# Altium schematic symbol library MI_Personal.SchLib: 995 symbols (part 12 of 12)
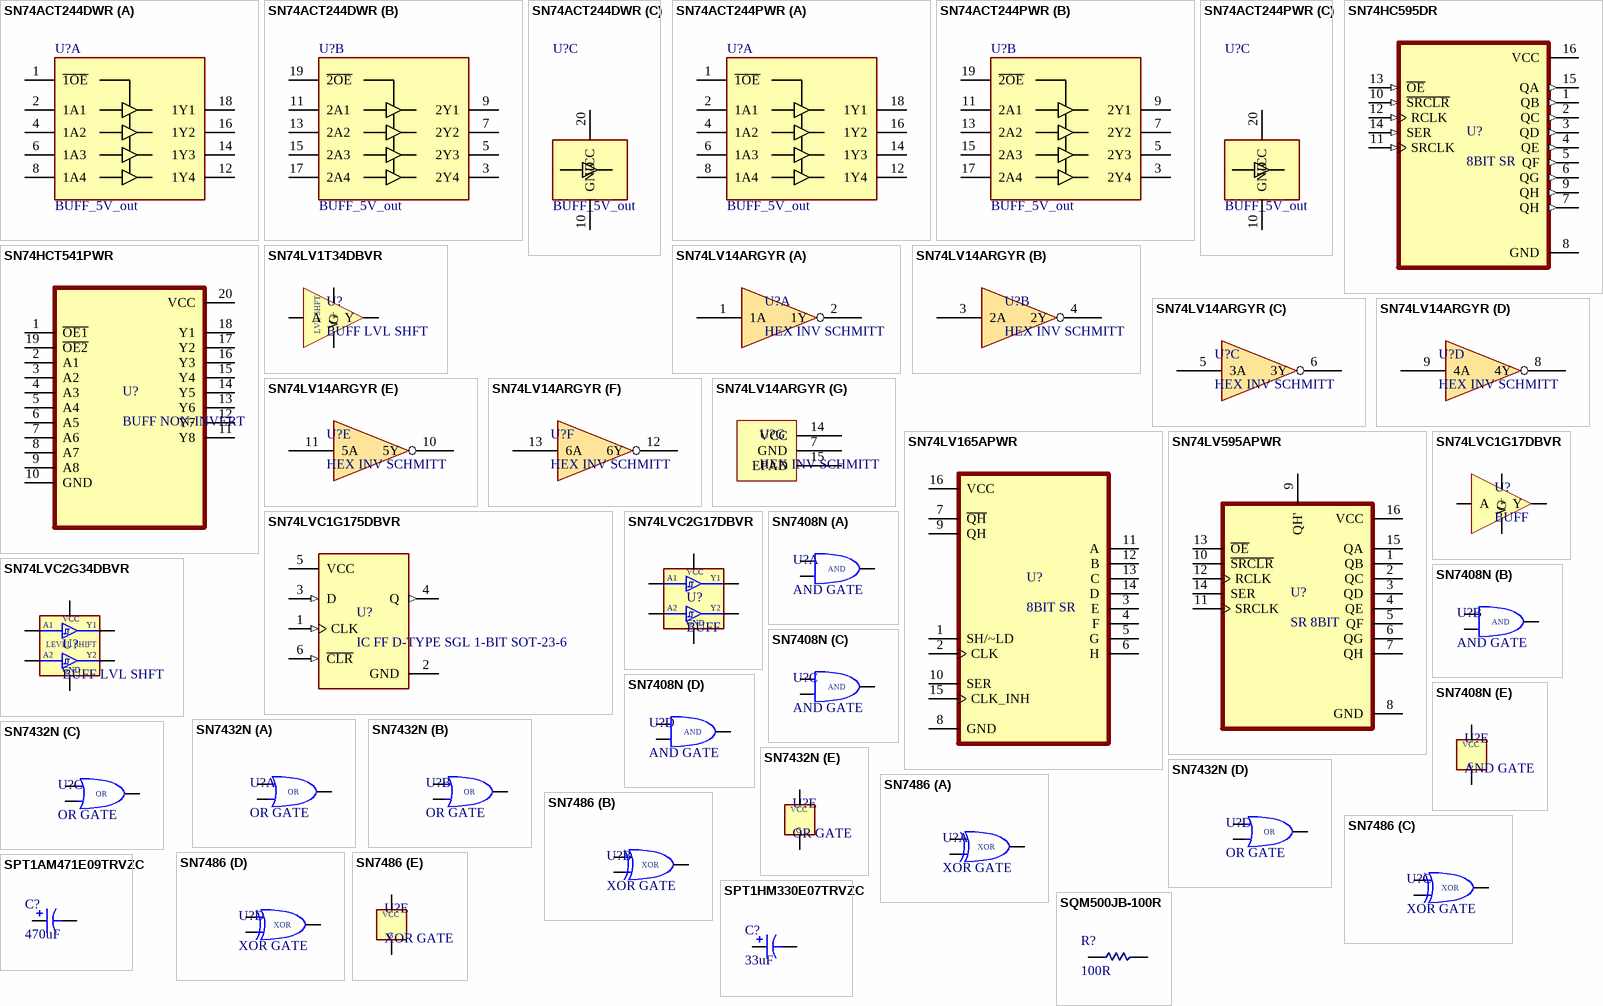
[diagram p38: symbols SN74ACT244DWR to SQM500JB-100R]

## SQM500JB-100R
designator R?, comment 100R
RES TH 100 OHM 5% 5W RADIAL CEMENT P=5; Supplier 1: Digikey; Supplier Part Number 1: 13-SQM500JB-100R-ND; Supplier 2: LCSC; Supplier Part Number 2: C3560599
footprint RES_SQM5 P=5mm
pins: 1 A, 2 B

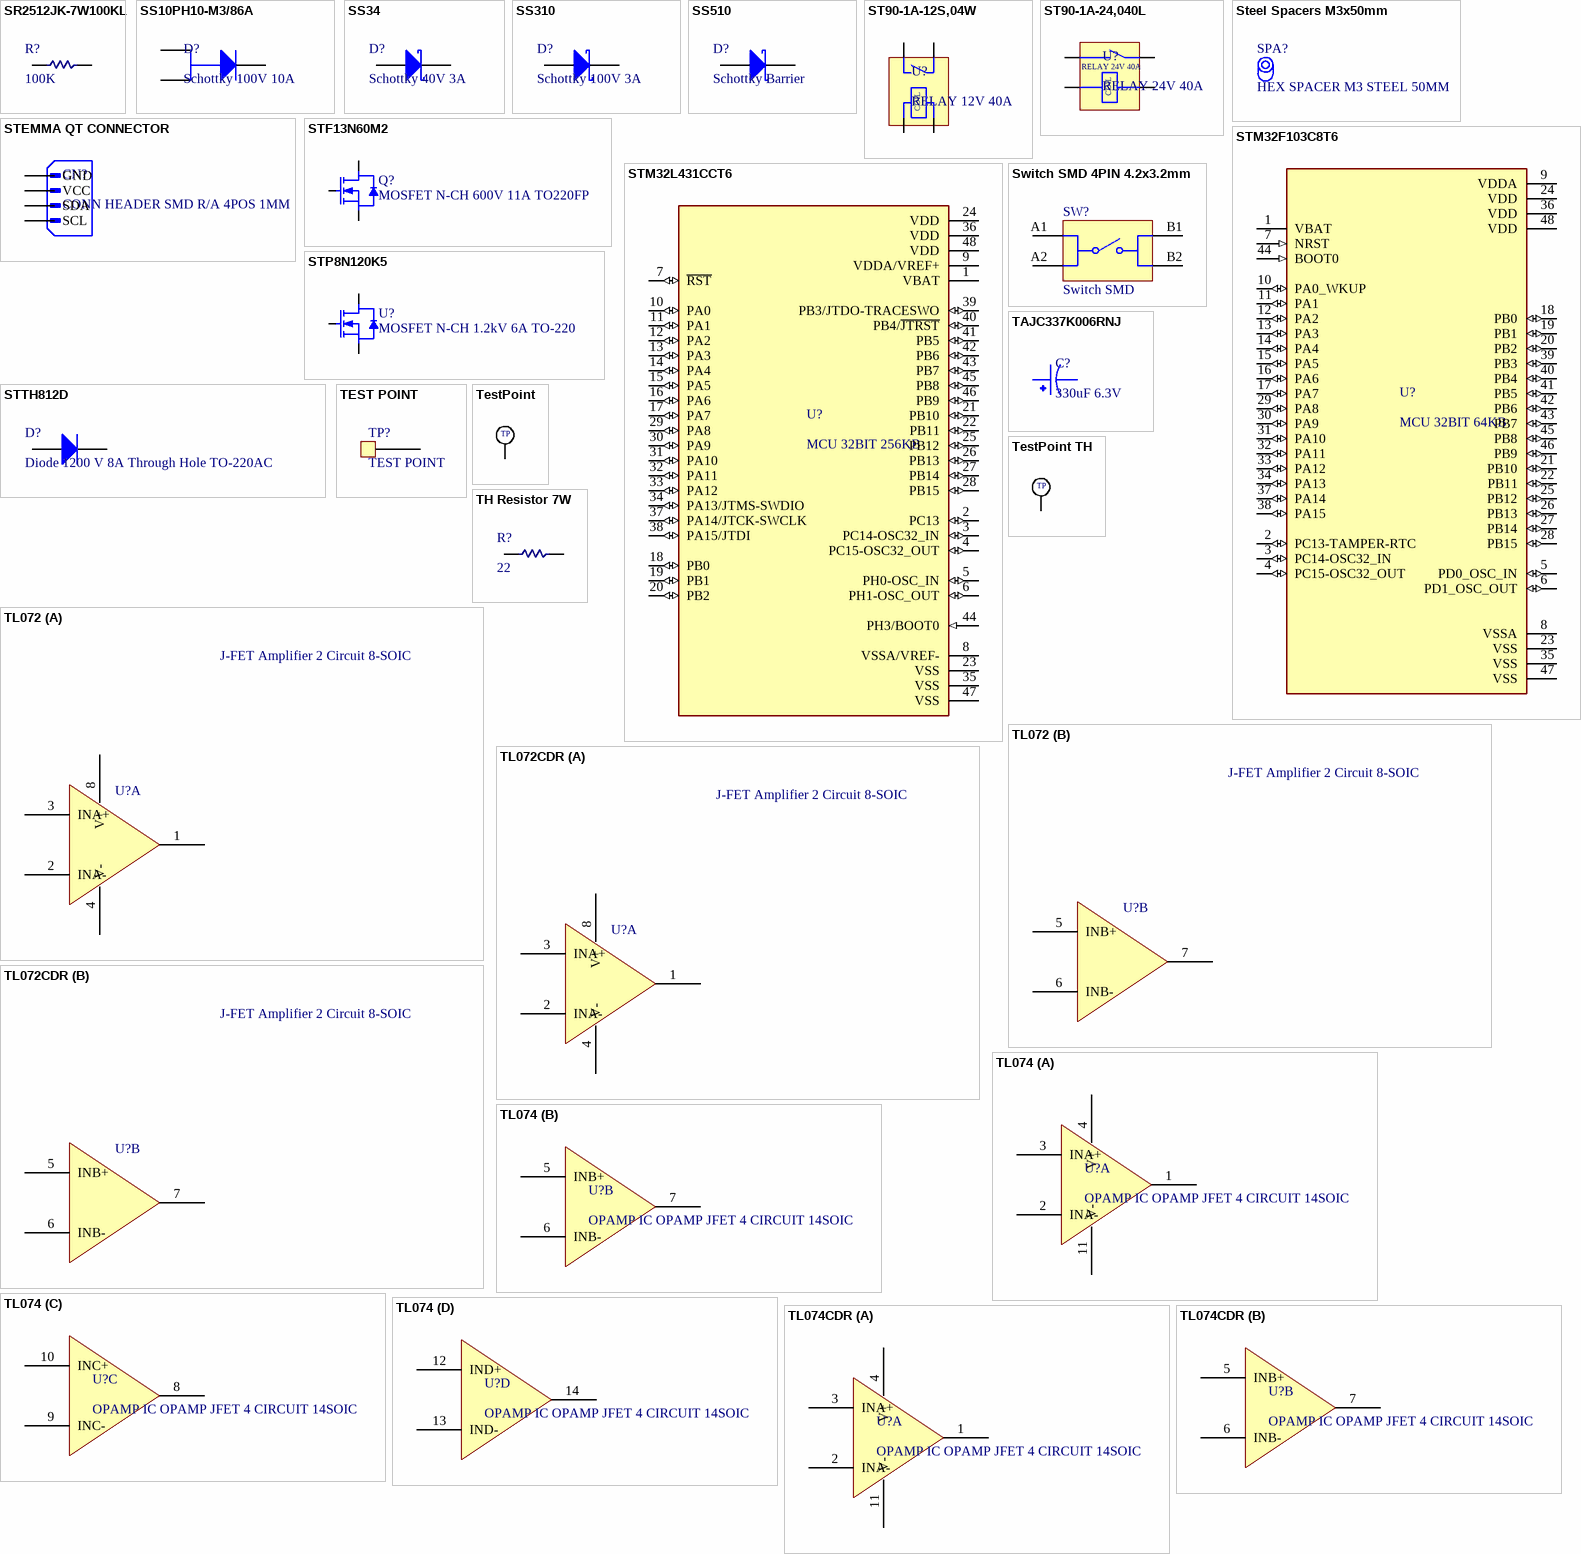
[diagram p24: symbols SR2512JK-7W100KL to TL074CDR]

## SR2512JK-7W100KL
designator R?, comment 100K
RES SMD 100K OHM 5% 2W 2512; Supplier 1: Digikey; Supplier Part Number 1: YAG6207CT-ND; Supplier 2: LCSC; Supplier Part Number 2: C876906
footprint RES 2512_6332 (Chip Resistor, 2-Leads, Body 6.30x3.20mm, IPC Medium Density)
pins: 1 A, 2 B

## SS10PH10-M3/86A
designator D?, comment Schottky 100V 10A
DIODE SCHOTTKY 100V 10A TO277A; Supplier 1: Digikey; Supplier Part Number 1: SS10PH10-M3/86AGICT-ND; Supplier 2: LCSC; Supplier Part Number 2: C5240369; Supplier 3: Digikey; Supplier Part Number 3: FSV10100VCT-ND; Supplier 4: LCSC; Supplier Part Number 4: C554009
footprint TO-277
pins: 1 A, 2 A, 3 K

## SS34
designator D?, comment Schottky 40V 3A
DIODE SCHOTTKY 40V SMA(DO-214AC); Supplier 1: DigiKey; Supplier Part Number 1: B340A-E3/61TGICT-ND; Supplier 2: LCSC; Supplier Part Number 2: C908680
footprint DO214AC SMA (Molded Diode, 2-Leads, Body 4.30x2.60mm, IPC Medium Density)
pins: 1 A, 2 K

## SS310
designator D?, comment Schottky 100V 3A
DIODE SCHOTTKY 100V 3A DO214AC; Supplier 1: LCSC; Supplier Part Number 1: C2848687
footprint DO214AC SMA (Molded Diode, 2-Leads, Body 4.30x2.60mm, IPC Medium Density)
pins: 1 A, 2 K

## SS510
designator D?, comment Schottky Barrier
DIODE Schottky Barrier 100V 5A DO214 SMA; Supplier 1: MAKERS; Supplier Part Number 1: https://makerselectronics.com/product/ss510-sma-schottky-barrier-diodes-sbd-smd-100v-0-85v5a-5a; ComponentLink1Description: MAKERS; ComponentLink1URL: https://makerselectronics.com/product/ss510-sma-schottky-barrier-diodes-sbd-smd-100v-0-85v5a-5a
footprint DO214 SMA
pins: 1 A, 2 K

## ST90-1A-12S,04W
designator U?, comment RELAY 12V 40A
RELAY 12V 40A 1 Form A: 1A (SPST-NO) Through Hole,31.8x27mm; Supplier 2: LCSC; Supplier Part Number 2: C48687505
footprint Relay HF2150-1A-12DE (Through Hole,27x31.8mm Power Relays ROHS)
pins: 1, 2, 3, 4
text: COIL

## ST90-1A-24,040L
designator U?, comment RELAY 24V 40A
RELAY 24V 40A 1 Form A: 1A (SPST-NO) Through Hole,31.8x27mm; Supplier 2: LCSC; Supplier Part Number 2: C48687506
footprint Relay HF2150-1A-12DE (Through Hole,27x31.8mm Power Relays ROHS)
pins: 1, 2, 3, 4
text: COIL

## Steel Spacers M3x50mm
designator SPA?, comment HEX SPACER M3 STEEL 50MM  (mechanical)
MACH Hex Standoff Threaded M3 Steel 50.00mm; ComponentLink1Description: Supplier Link; ComponentLink1URL: https://szinsail.en.made-in-china.com/product-group/CMdnsFJjlaRc/Standoffs-and-Spacers-catalog-1.html?pv_id=1if4j4e529d5&faw_id=1if4j5svvf1d; Supplier 1: Made In China; Supplier Part Number 1: https://szinsail.en.made-in-china.com/product-group/CMdnsFJjlaRc/Standoffs-and-Spacers-catalog-1.html?pv_id=1if4j4e529d5&faw_id=1if4j5svvf1d

## STEMMA QT CONNECTOR
designator CN?, comment CONN HEADER SMD R/A 4POS 1MM
Supplier 1: LCSC; Supplier Part Number 1: C51940130
footprint JST-SM04B-SRSS-TB
pins: 1 GND, 2 VCC, 3 SDA, 4 SCL

## STF13N60M2
designator Q?, comment MOSFET N-CH 600V 11A TO220FP
Supplier 1: DigiKey; Supplier Part Number 1: 497-13832-5-ND; Supplier 2: LCSC; Supplier Part Number 2: C146208
footprint TO-220FP-NMOS + Heatsink
footprint TO-220FP-NMOS
pins: 1 G, 2 D, 3 S

## STM32F103C8T6
designator U?, comment MCU 32BIT 64KB
MCU ARM® Cortex®-M3 STM32F1 Microcontroller IC 32-Bit 72MHz 64KB (64K x 8) FLASH 48-LQFP (7x7); Supplier 1: DigiKey; Supplier Part Number 1: 497-6063-ND; Supplier 2: LCSC; Supplier Part Number 2: C8734
footprint LQFP 48
pins: 1 VBAT (power), 2 PC13-TAMPER-RTC (io), 3 PC14-OSC32_IN (io), 4 PC15-OSC32_OUT (io), 5 PD0_OSC_IN (io), 6 PD1_OSC_OUT (io), 7 NRST (in), 8 VSSA (power), 9 VDDA (power), 10 PA0_WKUP (io), 11 PA1 (io), 12 PA2 (io), 13 PA3 (io), 14 PA4 (io), 15 PA5 (io), 16 PA6 (io), 17 PA7 (io), 18 PB0 (io), 19 PB1 (io), 20 PB2 (io), 21 PB10 (io), 22 PB11 (io), 23 VSS (power), 24 VDD (power), 25 PB12 (io), 26 PB13 (io), 27 PB14 (io), 28 PB15 (io), 29 PA8 (io), 30 PA9 (io), 31 PA10 (io), 32 PA11 (io), 33 PA12 (io), 34 PA13 (io), 35 VSS (power), 36 VDD (power), 37 PA14 (io), 38 PA15 (io), 39 PB3 (io), 40 PB4 (io), 41 PB5 (io), 42 PB6 (io), 43 PB7 (io), 44 BOOT0 (in), 45 PB8 (io), 46 PB9 (io), 47 VSS (power), 48 VDD (power)

## STM32L431CCT6
designator U?, comment MCU 32BIT 256KB
MCU ARMÂ® CortexÂ®-M4 STM32L4 Microcontroller IC 32-Bit Single-Core 80MHz 256KB (256K x 8) FLASH 48-LQFP (7x7); Supplier 1: DigiKey; Supplier Part Number 1: 497-17827-ND; Supplier 2: LCSC; Supplier Part Number 2: C486681
footprint LQFP 48
pins: 1 VBAT (power), 2 PC13 (io), 3 PC14-OSC32_IN (io), 4 PC15-OSC32_OUT (io), 5 PH0-OSC_IN (io), 6 PH1-OSC_OUT (io), 7 ~{RST} (io), 8 VSSA/VREF- (power), 9 VDDA/VREF+ (power), 10 PA0 (io), 11 PA1 (io), 12 PA2 (io), 13 PA3 (io), 14 PA4 (io), 15 PA5 (io), 16 PA6 (io), 17 PA7 (io), 18 PB0 (io), 19 PB1 (io), 20 PB2 (io), 21 PB10 (io), 22 PB11 (io), 23 VSS (power), 24 VDD (power), 25 PB12 (io), 26 PB13 (io), 27 PB14 (io), 28 PB15 (io), 29 PA8 (io), 30 PA9 (io), 31 PA10 (io), 32 PA11 (io), 33 PA12 (io), 34 PA13/JTMS-SWDIO (io), 35 VSS (power), 36 VDD (power), 37 PA14/JTCK-SWCLK (io), 38 PA15/JTDI (io), 39 PB3/JTDO-TRACESWO (io), 40 PB4/~{JTRST} (io), 41 PB5 (io), 42 PB6 (io), 43 PB7 (io), 44 PH3/BOOT0 (in), 45 PB8 (io), 46 PB9 (io), 47 VSS (power), 48 VDD (power)

## STP8N120K5
designator U?, comment MOSFET N-CH 1.2kV 6A TO-220
MOSFET N-CH 1200V 6A TO220; Supplier 1: Digikey; Supplier Part Number 1: 497-18093-ND; Supplier 2: LCSC; Supplier Part Number 2: C472606
footprint TO-220-INF +Heatsink (Footprint not found)
pins: 1 G, 2 D, 3 S

## STTH812D
designator D?, comment Diode 1200 V 8A Through Hole TO-220AC
DIODE STANDARD 1200V 8A TO220AC; Supplier 1: Digikey; Supplier Part Number 1: 497-5164-5-ND; Supplier 2: LCSC; Supplier Part Number 2: C283390; Supplier 3: Digikey; Supplier Part Number 3: VS-HFA08TB120-M3GI-ND; Supplier 4: LCSC; Supplier Part Number 4: C506534
footprint TO-220-2_INF
footprint TO-220-2_INF + Heatsink
pins: 1 A, 2 K

## Switch SMD 4PIN 4.2x3.2mm
designator SW?, comment Switch SMD
Switch SMD,4.2x3.2mm, SPST-NO, 12V, 50mA; ComponentLink1Description: makers; ComponentLink1URL: https://makerselectronics.com/product/smd-tactile-push-button-4-pin-3-24-22-5-mm-5pcs/; Supplier 1: LCSC; Supplier Part Number 1: C139797
footprint Tact Switch, SMD, body 4.2x3.2mm
pins: A1, A2, B1, B2

## TAJC337K006RNJ
designator C?, comment 330uF 6.3V
CAP TANT 330UF 10% 6.3V 2312; Supplier 1: DigiKey; Supplier Part Number 1: 478-4773-1-ND; Supplier 2: LCSC; Supplier Part Number 2: C11377
footprint CAP TANT 2312 (6032 metric)
pins: 1, 2

## TEST POINT
designator TP?  (no BOM)
TEST POINT PIN HEADER 1POS
footprint PIN HEADER 1x1
pins: 1

## TestPoint
designator TP?  (value not drawn)  (no BOM)
footprint TestPoint
pins: 1
text: TP

## TestPoint TH
designator TP?, comment TestPoint  (value not drawn)  (no BOM)
footprint TESTPIN BLACK small (Test pin/point TH, hole size D1mm height 5mm, MB2013)
pins: 1
text: TP

## TH Resistor 7W
designator R?, comment 22
RES TH 22 Ohm Wirewound Cement 7W; Supplier 1: Made In China; Supplier Part Number 1: https://yss1594636505542.en.made-in-china.com/product/FAPRKtTlJJVX/China-Sqp-Fixed-Wirewound-Cement-Resistor-5W-50W.html?pv_id=1ik7f425f87a&faw_id=1ik7f47rs1a9
footprint Power Res Vertical
pins: 1 A, 2 B

## TL072
designator U?, comment J-FET Amplifier 2 Circuit 8-SOIC
IC OPAMP JFET 2 CIRCUIT 8SOIC; Supplier 1: FREE ELECTRONICS; Supplier Part Number 1: https://free-electronic.com/product/tl072c-smd/; ComponentLink1Description: FREE ELECTRONICS; ComponentLink1URL: https://free-electronic.com/product/tl072c-smd/
footprint SOIC-8 (SOIC - 1.75 mm max height / SMALL OUTLINE INTEGRATED CIRCUIT)
part A pins: 1 OUT, 2 INA-, 3 INA+, 4 V- (power), 8 V+ (power)
part B pins: 5 INB+, 6 INB-, 7 OUTB

## TL072CDR
designator U?, comment J-FET Amplifier 2 Circuit 8-SOIC
IC OPAMP JFET 2 CIRCUIT 8SOIC; Supplier 1: Digikey; Supplier Part Number 1: 296-1282-1-ND; Supplier 2: LCSC; Supplier Part Number 2: C67473; Supplier 3: Digikey; Supplier Part Number 3: 497-2200-1-ND; Supplier 4: LCSC; Supplier Part Number 4: C6961
footprint SOIC-8 (SOIC - 1.75 mm max height / SMALL OUTLINE INTEGRATED CIRCUIT)
part A pins: 1 OUT, 2 INA-, 3 INA+, 4 V- (power), 8 V+ (power)
part B pins: 5 INB+, 6 INB-, 7 OUTB

## TL074
designator U?, comment OPAMP IC OPAMP JFET 4 CIRCUIT 14SOIC
IC OPAMP J-FET Amplifier 4 Circuit 14-SOIC; Supplier 1: RAM; Supplier Part Number 1: https://www.ram-e-shop.com/shop/smd-tl074-smd-tl074-5632; ComponentLink1Description: RAM; ComponentLink1URL: https://www.ram-e-shop.com/shop/smd-tl074-smd-tl074-5632
footprint SOIC-14 (SOIC, 14-Leads, Body 8.65x3.90mm, Pitch 1.27mm, IPC Low Density)
part A pins: 1 OUT, 2 INA-, 3 INA+, 4 V+ (power), 11 V- (power)
part B pins: 5 INB+, 6 INB-, 7 OUTB
part C pins: 8 OUTC, 9 INC-, 10 INC+
part D pins: 12 IND+, 13 IND-, 14 OUTD

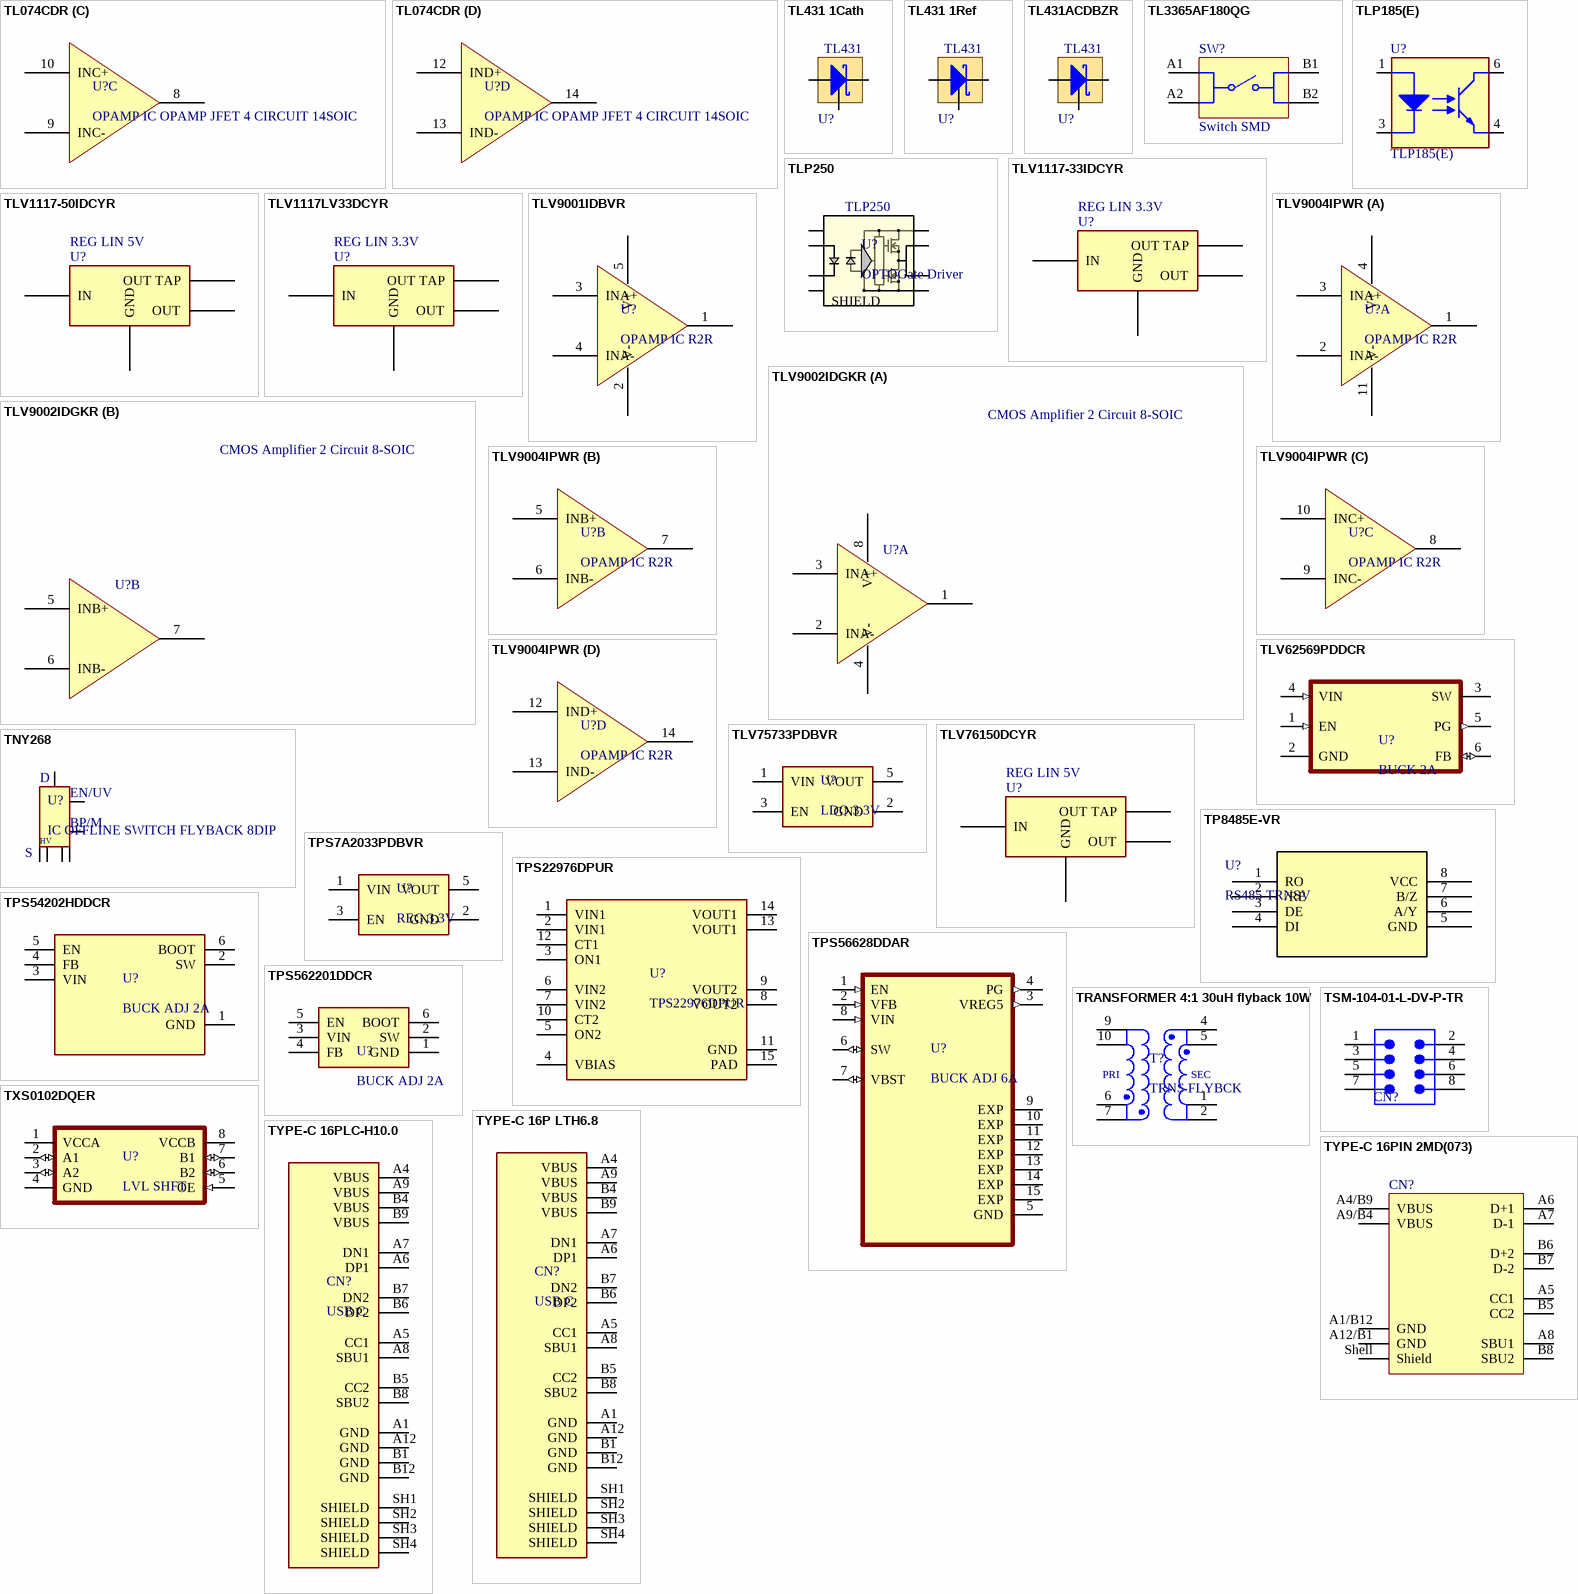
[diagram p25: symbols TL074CDR to TYPE-C 16PLC-H10.0]

## TL074CDR
designator U?, comment OPAMP IC OPAMP JFET 4 CIRCUIT 14SOIC
IC OPAMP J-FET Amplifier 4 Circuit 14-SOIC; ComponentLink1Description: DIGIKEY; ComponentLink1URL: https://www.digikey.com/en/products/detail/texas-instruments/TL074CDR/404931?curr=usd&utm_campaign=buynow&utm_medium=aggregator&utm_source=octopart; ComponentLink2Description: LCSC; ComponentLink2URL: https://www.lcsc.com/product-detail/FET-Input-Amplifiers_Texas-Instruments-TL074CDR_C12594.html?utm_source=octopart&utm_medium=cpc&utm_campaign=TL074CDR; Supplier 1: Digikey; Supplier Part Number 1: 296-1283-1-ND; Supplier 2: LCSC; Supplier Part Number 2: C12594; Supplier 3: Digikey; Supplier Part Number 3: 497-2204-1-ND; Supplier 4: LCSC; Supplier Part Number 4: C6963
footprint SOIC-14 (SOIC, 14-Leads, Body 8.65x3.90mm, Pitch 1.27mm, IPC Low Density)
part A pins: 1 OUT, 2 INA-, 3 INA+, 4 V+ (power), 11 V- (power)
part B pins: 5 INB+, 6 INB-, 7 OUTB
part C pins: 8 OUTC, 9 INC-, 10 INC+
part D pins: 12 IND+, 13 IND-, 14 OUTD

## TL431 1Cath
designator U?, comment IC VREF SHUNT ADJ 1% SOT23-3  (value not drawn)
IC Shunt Voltage Reference IC Adjustable 2.495V 36 VV ±1% 100 mA SOT-23-3; Supplier 1: Makers; Supplier Part Number 1: https://makerselectronics.com/product/tl431-431-smd-voltage-references-sot-23; ComponentLink1Description: Makers; ComponentLink1URL: https://makerselectronics.com/product/tl431-431-smd-voltage-references-sot-23
footprint SOT-23 TL431 TI
pins: 1 K, 2 Ref, 3 A
text: TL431

## TL431 1Ref
designator U?, comment IC VREF SHUNT ADJ 1% SOT23-3  (value not drawn)
IC Shunt Voltage Reference IC Adjustable 2.495V 36 VV ±1% 100 mA SOT-23-3; Supplier 1: Makers; Supplier Part Number 1: https://makerselectronics.com/product/tl431-431-smd-voltage-references-sot-23; ComponentLink1Description: Makers; ComponentLink1URL: https://makerselectronics.com/product/tl431-431-smd-voltage-references-sot-23
footprint SOT-23 TL431 TI
pins: 1 Ref, 2 K, 3 A
text: TL431

## TL431ACDBZR
designator U?, comment IC VREF SHUNT ADJ 1% SOT23-3  (value not drawn)
IC Shunt Voltage Reference IC Adjustable 2.495V 36 VV ±1% 100 mA SOT-23-3; Supplier 1: DigiKey; Supplier Part Number 1: 296-17328-1-ND; Supplier 2: LCSC; Supplier Part Number 2: C350683; Supplier 3: Digikey; Supplier Part Number 3: 497-TL431ACL3TCT-ND; Supplier 4: LCSC; Supplier Part Number 4: C283419
footprint SOT-23 TL431 TI
pins: 1 K, 2 Ref, 3 A
text: TL431

## TL3365AF180QG
designator SW?, comment Switch SMD
Switch SMD,4.2x3.2mm, SPST-NO, 12V, 50mA; Supplier 2: LCSC; Supplier Part Number 2: C139797; Supplier 1: DigiKey; Supplier Part Number 1: EG5384CT-ND
footprint Tact Switch, SMD, body 4.2x3.2mm
pins: A1, A2, B1, B2

## TLP185(E)
designator U?
IC OPTOISO 3.75KV 1CH TRANS 6-SOP; Supplier 1: LCSC; Supplier Part Number 1: C388375
footprint SOP-4-2.54mm
pins: 1 ANODE, 3 CATHODE, 4 EMITTER, 6 COLLECTOR

## TLP250
designator U?, comment OPTOGate Driver
IC OPTO GATE DRIVER 1CH 8 DIP; Supplier 1: Makers; Supplier Part Number 1: https://makerselectronics.com/product/tlp250-mosfet-driver-dip-8; ComponentLink1Description: Makers; ComponentLink1URL: https://makerselectronics.com/product/tlp250-mosfet-driver-dip-8
footprint DIP_300_8
pins: 1 NC, 2 A, 3 K, 4 NC, 5 VSS (power), 6 G, 7 G, 8 VDD (power)
text: SHIELD

## TLV1117-33IDCYR
designator U?, comment REG LIN 3.3V
IC REG LIN 3.3V 800MA SOT-223-4; Supplier 1: Digikey; Supplier Part Number 1: 296-21113-1-ND; Supplier 2: LCSC; Supplier Part Number 2: C37359
footprint SOT-223-TI
pins: 1 GND, 2 OUT, 3 IN, 4 OUT TAP

## TLV1117-50IDCYR
designator U?, comment REG LIN 5V
IC REG LIN 5V 800MA SOT-223-4; Supplier 1: Digikey; Supplier Part Number 1: 296-21115-1-ND; Supplier 2: LCSC; Supplier Part Number 2: C15512
footprint SOT-223-TI
pins: 1 GND, 2 OUT, 3 IN, 4 OUT TAP

## TLV1117LV33DCYR
designator U?, comment REG LIN 3.3V
IC REG LIN 3.3V 1A SOT-223-4; Supplier 1: Digikey; Supplier Part Number 1: 296-28778-1-ND; Supplier 2: LCSC; Supplier Part Number 2: C15578
footprint SOT-223-TI
pins: 1 GND, 2 OUT, 3 IN, 4 OUT TAP

## TLV9001IDBVR
designator U?, comment OPAMP IC R2R
IC OPAMP CMOS 1 CIRCUIT SC70-5; Supplier 1: Digikey; Supplier Part Number 1: 296-TLV9001IDBVRCT-ND; Supplier 2: LCSC; Supplier Part Number 2: C398363
footprint SOT23-5 TI
pins: 1 OUT, 2 V- (power), 3 INA+, 4 INA-, 5 V+ (power)

## TLV9002IDGKR
designator U?, comment CMOS Amplifier 2 Circuit 8-SOIC
IC OPAMP GP 2 CIRCUIT 8VSSOP; Supplier 1: DigiKey; Supplier Part Number 1: 296-50415-1-ND; Supplier 2: LCSC; Supplier Part Number 2: C398361
footprint VSSOP-8 TI
part A pins: 1 OUT, 2 INA-, 3 INA+, 4 V- (power), 8 V+ (power)
part B pins: 5 INB+, 6 INB-, 7 OUTB

## TLV9004IPWR
designator U?, comment OPAMP IC R2R
IC OPAMP GP 4 CIRCUIT 14TSSOP; Supplier 1: Digikey; Supplier Part Number 1: 296-51827-1-ND; Supplier 2: LCSC; Supplier Part Number 2: C2058050
footprint TSSOP-14 TI (TSOP, 14-Leads, Body 5.00x4.40mm, Pitch 0.65mm, IPC Medium Density)
part A pins: 1 OUT, 2 INA-, 3 INA+, 4 V+ (power), 11 V- (power)
part B pins: 5 INB+, 6 INB-, 7 OUTB
part C pins: 8 OUTC, 9 INC-, 10 INC+
part D pins: 12 IND+, 13 IND-, 14 OUTD

## TLV62569PDDCR
designator U?, comment BUCK 2A
IC REG BUCK ADJ 2A SOT23; Supplier 1: DigiKey; Supplier Part Number 1: 296-48175-1-ND; Supplier 2: LCSC; Supplier Part Number 2: C398365
footprint SOT23-6 TI
pins: 1 EN (in), 2 GND (power), 3 SW (power), 4 VIN (in), 5 PG (out), 6 FB (io)

## TLV75733PDBVR
designator U?, comment LDO 3.3V
IC REG LINEAR 3.3V 1A SOT23-5; Supplier 1: DigiKey; Supplier Part Number 1: 296-50414-1-ND; Supplier 2: LCSC; Supplier Part Number 2: C485517
footprint SOT-23-5
pins: 1 VIN, 2 GND (power), 3 EN, 5 VOUT

## TLV76150DCYR
designator U?, comment REG LIN 5V
IC REG LINEAR 5V 1A SOT-223-4; Supplier 1: Digikey; Supplier Part Number 1: 296-TLV76150DCYRCT-ND; Supplier 2: LCSC; Supplier Part Number 2: C5845194
footprint SOT-223-TI
pins: 1 GND, 2 OUT, 3 IN, 4 OUT TAP

## TNY268
designator U?, comment IC OFFLINE SWITCH FLYBACK 8DIP
Supplier 1: UGE; Supplier Part Number 1: https://uge-one.com/product/tny268/; ComponentLink1Description: UGE; ComponentLink1URL: https://uge-one.com/product/tny268/
footprint CONV_TNY268PN
pins: 1, 2, 3, 4, 5, 7, 8
text: D; EN/UV; BP/M; HV; S

## TP8485E-VR
designator U?, comment RS485 TRNSV
IC TRANSCEIVER HALF 1/1 8MSOP; Supplier 1: UGE; Supplier Part Number 1: https://uge-one.com/product/tp8485e-3-3-5v-low-power-half-duplex-rs-485-transceiver-with-300-bps-to-250-kbps/; ComponentLink1Description: UGE; ComponentLink1URL: https://uge-one.com/product/tp8485e-3-3-5v-low-power-half-duplex-rs-485-transceiver-with-300-bps-to-250-kbps/
footprint SOIC-8 (SOIC - 1.75 mm max height / SMALL OUTLINE INTEGRATED CIRCUIT)
pins: 1 RO, 2 /RE, 3 DE, 4 DI, 5 GND (power), 6 A/Y, 7 B/Z, 8 VCC (power)

## TPS7A2033PDBVR
designator U?, comment REG 3.3V
IC REG LINEAR 3.3V 300MA SOT23-5; Supplier 1: DigiKey; Supplier Part Number 1: 296-TPS7A2033PDBVRCT-ND; Supplier 2: LCSC; Supplier Part Number 2: C2862740
footprint SOT23-5
pins: 1 VIN, 2 GND (power), 3 EN, 5 VOUT

## TPS22976DPUR
designator U?
IC PWR SWITCH N-CHAN 6A 1:1 14WSON; Supplier 1: DigiKey; Supplier Part Number 1: 296-48805-1-ND; Supplier 2: LCSC; Supplier Part Number 2: C2680350
footprint WSON-14
pins: 1 VIN1, 2 VIN1, 3 ON1, 4 VBIAS, 5 ON2, 6 VIN2, 7 VIN2, 8 VOUT2, 9 VOUT2, 10 CT2, 11 GND, 12 CT1, 13 VOUT1, 14 VOUT1, 15 PAD

## TPS54202HDDCR
designator U?, comment BUCK ADJ 2A
IC REG BUCK ADJ 2A SOT23; Supplier 1: DigiKey; Supplier Part Number 1: 296-44396-1-ND; Supplier 2: LCSC; Supplier Part Number 2: C527684
footprint TSOT-6
pins: 1 GND, 2 SW, 3 VIN, 4 FB, 5 EN, 6 BOOT

## TPS56628DDAR
designator U?, comment BUCK ADJ 6A
IC synchronous buck converter 4.5-V to 18-V, 6-A  with eco-mode; Supplier 1: DigiKey; Supplier Part Number 1: 296-40815-1-ND; Supplier 2: LCSC; Supplier Part Number 2: C485522
footprint SO-8 PowerPad
pins: 1 EN (in), 2 VFB (in), 3 VREG5 (out), 4 PG (out), 5 GND (power), 6 SW (io), 7 VBST (io), 8 VIN (in), 9 EXP (power), 10 EXP (power), 11 EXP (power), 12 EXP (power), 13 EXP (power), 14 EXP (power), 15 EXP (power)

## TPS562201DDCR
designator U?, comment BUCK ADJ 2A
IC REG BUCK ADJ 2A SOT23; Supplier 1: LCSC; Supplier Part Number 1: C90061
footprint SOT23-6
pins: 1 GND, 2 SW, 3 VIN, 4 FB, 5 EN, 6 BOOT

## TRANSFORMER 4:1 30uH flyback 10W
designator T?, comment TRNS FLYBCK
TRANSFORMER 4:1 30uh EP13 SMD
footprint TRANS_EP13_L13.46W17.75H12.70 (Flyback Transformers for Linear Technology, body 13.46 x 17.75mm)
pins: 1, 2, 4, 5, 6, 7, 9, 10
text: PRI; SEC

## TSM-104-01-L-DV-P-TR
designator CN?, comment PIN HEADER  (value not drawn)
CONN HEADER SMD 8POS 2.54MM; Supplier 1: DigiKey; Supplier Part Number 1: WM17449-ND; Supplier 2: LCSC; Supplier Part Number 2: C32713283
footprint HEADER 2X4 MALE 2.54 VERT SMD (Pin Header, pitch 2.54 mm, SMD, Vertical, dual row, 8p)
pins: 1, 2, 3, 4, 5, 6, 7, 8

## TXS0102DQER
designator U?, comment LVL SHFT
IC XLTR VL BIDIR 8-X2SON; Supplier 1: DigiKey; Supplier Part Number 1: 296-28368-1-ND; Supplier 2: LCSC; Supplier Part Number 2: C2652935
footprint SON-8 1.4X1 TI (SON, 8-Leads, Body 1.40x1.00mm, Pitch 0.35mm, IPC Medium Density)
pins: 1 VCCA (power), 2 A1 (io), 3 A2 (io), 4 GND (power), 5 OE (in), 6 B2 (io), 7 B1 (io), 8 VCCB (power)

## TYPE-C 16P LTH6.8
designator CN?, comment USB C
CONN RCPT USB 3.1 Type-C 16POS SMD; Supplier 2: LCSC; Supplier Part Number 2: C5187468
footprint USB-C 16pin Vertical SMD
pins: A1 GND, A4 VBUS, A5 CC1, A6 DP1, A7 DN1, A8 SBU1, A9 VBUS, A12 GND, B1 GND, B4 VBUS, B5 CC2, B6 DP2, B7 DN2, B8 SBU2, B9 VBUS, B12 GND, SH1 SHIELD, SH2 SHIELD, SH3 SHIELD, SH4 SHIELD

## TYPE-C 16PIN 2MD(073)
designator CN?, comment USB C 16PIN  (value not drawn)
CONN RCPT Type-C 16POS SMD R/A; Supplier 1: LCSC; Supplier Part Number 1: C2765186
footprint USB  C 16 PIN VERTICAL PLUG (USB TYPE C VERTICAL PLUG)
pins: A1/B12 GND, A4/B9 VBUS, A5 CC1, A6 D+1, A7 D-1, A8 SBU1, A9/B4 VBUS, A12/B1 GND, B5 CC2, B6 D+2, B7 D-2, B8 SBU2, Shell Shield

## TYPE-C 16PLC-H10.0
designator CN?, comment USB C
CONN RCPT USB 3.1 Type-C 16POS TH; Supplier 2: LCSC; Supplier Part Number 2: C3151747
footprint USB-C 24 Vertircal TH
pins: A1 GND, A4 VBUS, A5 CC1, A6 DP1, A7 DN1, A8 SBU1, A9 VBUS, A12 GND, B1 GND, B4 VBUS, B5 CC2, B6 DP2, B7 DN2, B8 SBU2, B9 VBUS, B12 GND, SH1 SHIELD, SH2 SHIELD, SH3 SHIELD, SH4 SHIELD

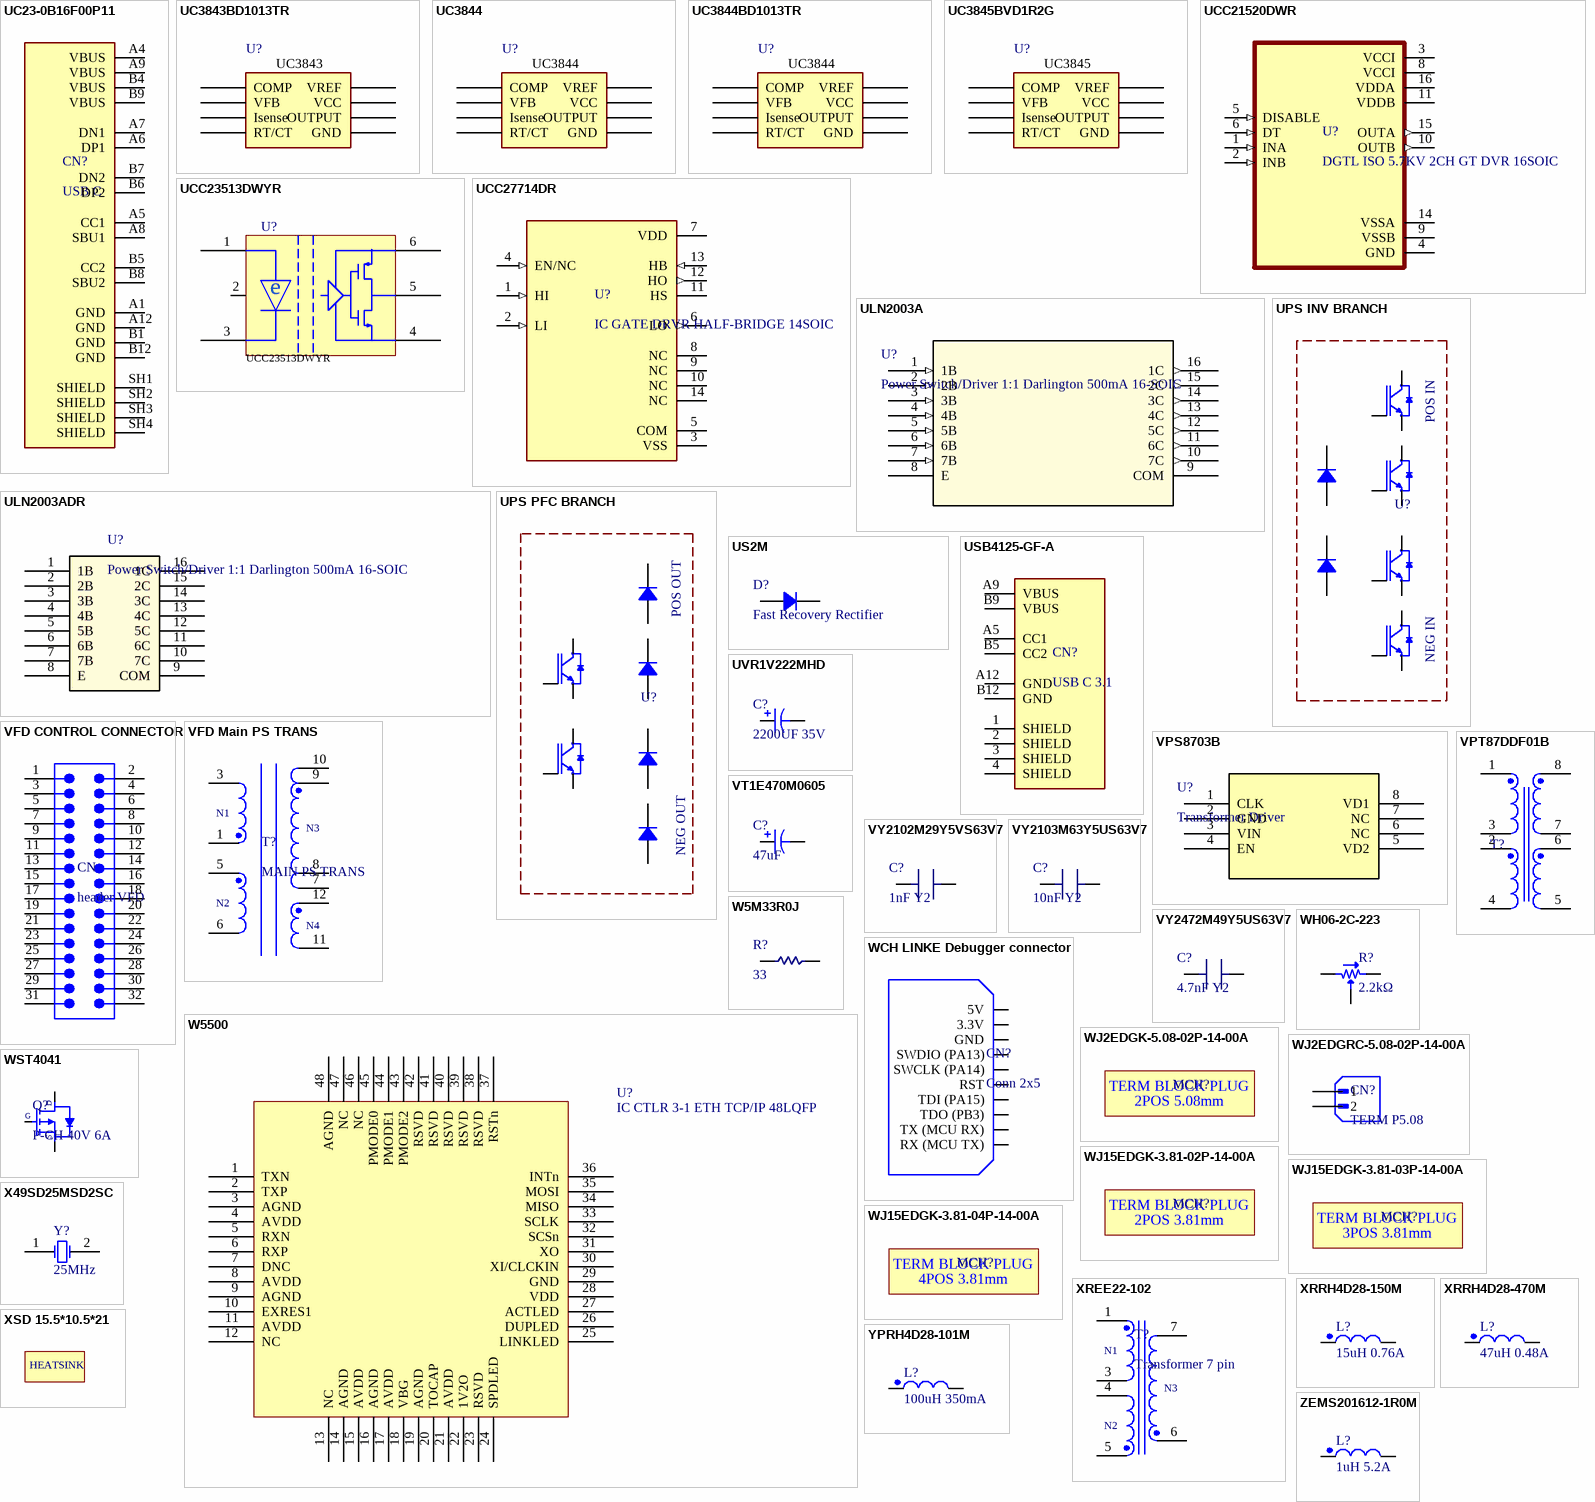
[diagram p26: symbols UC23-0B16F00P11 to ZEMS201612-1R0M]

## UC23-0B16F00P11
designator CN?, comment USB C
CONN RCPT USB 3.1 Type-C 16POS TH R/A; Supplier 2: LCSC; Supplier Part Number 2: C36936564
footprint USB-C 24 R/A TH
pins: A1 GND, A4 VBUS, A5 CC1, A6 DP1, A7 DN1, A8 SBU1, A9 VBUS, A12 GND, B1 GND, B4 VBUS, B5 CC2, B6 DP2, B7 DN2, B8 SBU2, B9 VBUS, B12 GND, SH1 SHIELD, SH2 SHIELD, SH3 SHIELD, SH4 SHIELD

## UC3843BD1013TR
designator U?, comment IC REG CTRLR MULT TOPOLOGY 8DIP  (value not drawn)
IC DC-DC Controller IC 8-PDIP; Supplier 1: Digikey; Supplier Part Number 1: 497-3681-1-ND; Supplier 2: LCSC; Supplier Part Number 2: C92746; Supplier 3: Digikey; Supplier Part Number 3: UC3843BVD1R2GOSCT-ND; Supplier 4: LCSC; Supplier Part Number 4: C231572
footprint SOIC-8 UCx84x (SOIC-8 UCx84x STelectronics)
pins: 1 COMP, 2 VFB, 3 Isense, 4 RT/CT, 5 GND, 6 OUTPUT, 7 VCC, 8 VREF
text: UC3843

## UC3844
designator U?, comment IC REG CTRLR BST FLYBK ISO 8SOIC  (value not drawn)
IC REG CTRLR BST FLYBK ISO 8DIP; Supplier 1: RAM; Supplier Part Number 1: https://www.ram-e-shop.com/shop/uc3844-uc3844-5699; ComponentLink1Description: RAM; ComponentLink1URL: https://www.ram-e-shop.com/shop/uc3844-uc3844-5699
footprint DIP_300_8
pins: 1 COMP, 2 VFB, 3 Isense, 4 RT/CT, 5 GND, 6 OUTPUT, 7 VCC, 8 VREF

## UC3844BD1013TR
designator U?, comment IC REG CTRLR BST FLYBK ISO 8SOIC  (value not drawn)
Supplier 1: Digikey; Supplier Part Number 1: 497-3682-1-ND; Supplier 2: LCSC; Supplier Part Number 2: C10640; Supplier 3: Digikey; Supplier Part Number 3: UC3844BD1R2GOSCT-ND; Supplier 4: LCSC; Supplier Part Number 4: C7117
footprint SOIC-8 UCx84x (SOIC-8 UCx84x STelectronics)
pins: 1 COMP, 2 VFB, 3 Isense, 4 RT/CT, 5 GND, 6 OUTPUT, 7 VCC, 8 VREF
text: UC3844

## UC3845BVD1R2G
designator U?, comment IC REG CTRLR MULT TOPOLOGY 8DIP  (value not drawn)
IC DC-DC Controller IC 8-PDIP; Supplier 1: Digikey; Supplier Part Number 1: UC3845BD1R2GOSCT-ND; Supplier 2: LCSC; Supplier Part Number 2: C146766
footprint SOIC-8 UCx84x (SOIC-8 UCx84x STelectronics)
pins: 1 COMP, 2 VFB, 3 Isense, 4 RT/CT, 5 GND, 6 OUTPUT, 7 VCC, 8 VREF
text: UC3845

## UCC21520DWR
designator U?, comment DGTL ISO 5.7KV 2CH GT DVR 16SOIC
IC Gate Driver Capacitive Coupling 5700Vrms 2 Channel 16-SOIC; Supplier 1: Digikey; Supplier Part Number 1: 296-47383-6-ND; Supplier 2: LCSC; Supplier Part Number 2: C601651
footprint SOIC-16 TI
pins: 1 INA (in), 2 INB (in), 3 VCCI (power), 4 GND (power), 5 DISABLE (in), 6 DT (in), 8 VCCI (power), 9 VSSB (power), 10 OUTB (out), 11 VDDB (power), 14 VSSA (power), 15 OUTA (out), 16 VDDA (power)

## UCC23513DWYR
designator U?, comment IC OPTOISO 5KV 1CH GATE DVR 6SOP  (value not drawn)
IC 3A Gate Driver Capacitive Coupling 5000Vrms 1 Channel 6-SOIC; Supplier 1: Digikey; Supplier Part Number 1: 296-UCC23513DWYRCT-ND; Supplier 2: LCSC; Supplier Part Number 2: C456289
footprint SOIC-6 FOD8342T
pins: 1 A, 2 NC, 3 K, 4 VSS, 5 VO, 6 VDD
text: e

## UCC27714DR
designator U?, comment IC GATE DRVR HALF-BRIDGE 14SOIC
Supplier 1: Digikey; Supplier Part Number 1: 296-42701-1-ND; Supplier 2: LCSC; Supplier Part Number 2: C473332
footprint SOIC-14 (SOIC, 14-Leads, Body 8.65x3.90mm, Pitch 1.27mm, IPC Low Density)
pins: 1 HI (in), 2 LI (in), 3 VSS (power), 4 EN/NC (in), 5 COM (power), 6 LO (out), 7 VDD (power), 8 NC, 9 NC, 10 NC, 11 HS, 12 HO (out), 13 HB (in), 14 NC

## ULN2003A
designator U?, comment Power Switch/Driver 1:1 Darlington 500mA 16-SOIC
IC TRANS 7NPN DARL 50V 0.5A 16SOIC; Supplier 1: UGE; Supplier Part Number 1: https://uge-one.com/product/uln2003a-smd-16pin/; ComponentLink1Description: UGE; ComponentLink1URL: https://uge-one.com/product/uln2003a-smd-16pin/
footprint SOIC-16
pins: 1 1B (in), 2 2B (in), 3 3B (in), 4 4B (in), 5 5B (in), 6 6B (in), 7 7B (in), 8 E, 9 COM, 10 7C (out), 11 6C (out), 12 5C (out), 13 4C (out), 14 3C (out), 15 2C (out), 16 1C (out)

## ULN2003ADR
designator U?, comment Power Switch/Driver 1:1 Darlington 500mA 16-SOIC
IC TRANS 7NPN DARL 50V 0.5A 16SOIC; Supplier 1: DigiKey; Supplier Part Number 1: 296-1368-1-ND; Supplier 2: LCSC; Supplier Part Number 2: C7512
footprint SOIC-16
pins: 1 1B, 2 2B, 3 3B, 4 4B, 5 5B, 6 6B, 7 7B, 8 E, 9 COM, 10 7C, 11 6C, 12 5C, 13 4C, 14 3C, 15 2C, 16 1C

## UPS INV BRANCH
designator U?, comment IGBT , IGBT AND FS DIODE  (value not drawn)
IGBT PART A IGBT, PART B IGBT, PART C FS DIODE / IXYS DSE160 / INFINION K50T60
footprint UPS INV BRANCH
pins: AN A, AP A, CN K, CP K, DN_i C, DN_o C, DP_I, DP_o C, GN_i G, GN_o G, GP_i G, GP_o G, SN_i E, SN_o E, SP_i E, SP_o E
text: POS IN; NEG IN

## UPS PFC BRANCH
designator U?, comment IGBT FS Diode AND RECTIFIER DIODE  (value not drawn)
IGBT PART A IGBT, PART B Fast switching diode, PART C Rectifier DIODE / IXYS DSE160 / INFINION K50T60 / VISHAY VS-E5PH6006L-N3
footprint UPS PFC BRANCH
pins: AN_i A, AN_o A, AP_i A, AP_o A, CN_i K, CN_o K, CP_i K, CP_o K, DN C, DP C, GN G, GP G, SN E, SP E
text: POS OUT; NEG OUT

## US2M
designator D?, comment Fast Recovery Rectifier
DIODE Fast Recovery 75ns 2A 1kV DO214 SMA; Supplier 1: MAKERS; Supplier Part Number 1: https://makerselectronics.com/product/us2m-sma-diodes-fast-recovery-rectifier-smd-1-65v2a-75ns-single-2a-1kv; ComponentLink1Description: MAKERS; ComponentLink1URL: https://makerselectronics.com/product/us2m-sma-diodes-fast-recovery-rectifier-smd-1-65v2a-75ns-single-2a-1kv
footprint DO214 SMA
pins: 1 A, 2 K

## USB4125-GF-A
designator CN?, comment USB C 3.1
CONN RCPT TYPE C 6P SMD RA; Supplier 1: DigiKey; Supplier Part Number 1: 2073-USB4125-GF-A-0190CT-ND; Supplier 2: LCSC; Supplier Part Number 2: C5246813
footprint USB-C 24 (6+18 Dummy) (USB 3.1 1 6P -40?~+85? Type-C SMD USB, DVI, HDMI Connector Assemblies ROHS)
pins: 1 SHIELD, 2 SHIELD, 3 SHIELD, 4 SHIELD, A5 CC1, A9 VBUS (power), A12 GND (power), B5 CC2, B9 VBUS (power), B12 GND (power)

## UVR1V222MHD
designator C?, comment 2200UF 35V
CAP ALUM 2200UF 20% 35V RADIAL; Supplier 1: DigiKey; Supplier Part Number 1: 493-1086-ND; Supplier 2: LCSC; Supplier Part Number 2: C106547
footprint CAP TH ALUM ELEC D16.00mm S7.50mm H25.00mm (16mm Diameter 7.5mm Lead Spacing Aluminum Electrolytic Capacitors Radial, Can)
pins: 1, 2

## VFD CONTROL CONNECTOR
designator CN, comment header VFD
CONN HEADER VERT VFD; Supplier 1: LCSC; Supplier Part Number 1: C2845592; Supplier 2: DigiKey; Supplier Part Number 2: 455-B32B-PHDSS-ND
footprint JST-B32B-PHDSS (Connector Header Through Hole 32 position 0.079" (2.00mm))
pins: 1, 2, 3, 4, 5, 6, 7, 8, 9, 10, 11, 12, 13, 14, 15, 16, 17, 18, 19, 20, 21, 22, 23, 24, 25, 26, 27, 28, 29, 30, 31, 32

## VFD Main PS TRANS
designator T?, comment MAIN PS TRANS
TRANSFORMER Offline Flyback Transformer, EE28/17, THT    22: 3 : 2 : 5 N1:N2:N3:N4 L=266uH   REF:750343773
footprint TRANSFORMER ER28/17_7508113417 (Offline Flyback Transformer, ER28/17, THT)
pins: 1, 3, 5, 6, 7 9, 8 10, 9, 10, 11 9, 12 10
text: N1; N3; N2; N4

## VPS8703B
designator U?, comment Transformer Driver
IC ESOP8 Transformer Drivers ROHS; Supplier 2: LCSC; Supplier Part Number 2: C7470608
footprint ESOP8 (SOP, 8-Leads, Body 4.90x3.90mm, Pitch 1.27mm, Thermal Pad 3.50x2.60mm, IPC Medium Density)
pins: 1 CLK, 2 GND, 3 VIN, 4 EN, 5 VD2 (power), 6 NC, 7 NC, 8 VD1 (power), 9

## VPT87DDF01B
designator T?, comment Pulse Transformer  (value not drawn)
TRANSFORMER SMD-8P,12.1x8.3mm Power Transformers ROHS; Supplier 1: LCSC; Supplier Part Number 1: C2846916
footprint Pulse Transformer 8Pin (Transformer 1:1:1:1)
pins: 1, 2, 3, 4, 5, 6, 7, 8

## VT1E470M0605
designator C?, comment 47uF
CAP ALUM 47UF 20% 25V SMD; Supplier 1: Digikey; Supplier Part Number 1: PCE3753CT-ND; Supplier 2: LCSC; Supplier Part Number 2: C141425
footprint CAP ALSMD ELEC 6.6MM H5.4MM (Aluminum SMD Electrolytic Capacitor, 6.60mm Land Size, 6.30mm Diameter, 5.40mm Height, 8.00mm Maximum Leads Span)
pins: 1, 2

## VY2102M29Y5VS63V7
designator C?, comment 1nF Y2
CAP CER X1,Y2 1000PF 300VAC Y5V RADIAL; Supplier 1: Digikey; Supplier Part Number 1: BC3308-ND; Supplier 3: Mouser; Supplier Part Number 3: 72-VY2102M29Y5VS63V7; Supplier 2: LCSC; Supplier Part Number 2: C5355123
footprint Cer Th Cap 7.5mm 1nF Y2
pins: 1, 2 B

## VY2103M63Y5US63V7
designator C?, comment 10nF Y2
CAP CER X1,Y2 10000PF 440VAC Y5U RDL; Supplier 1: Digikey; Supplier Part Number 1: BC2361-ND; Supplier 3: Mouser; Supplier Part Number 3: 72-VY2103M63Y5US63V7; Supplier 2: LCSC; Supplier Part Number 2: C2992590
footprint Cer Th Cap 7.5mm 10nF Y2
pins: 1, 2 B

## VY2472M49Y5US63V7
designator C?, comment 4.7nF Y2
CAP CER X1,Y2 4700PF 440VAC Y5U RADIAL; Supplier 1: DigiKey; Supplier Part Number 1: BC2359-ND; Supplier 3: Mouser; Supplier Part Number 3: 72-VY2472M49Y5US63V7; Supplier 2: LCSC; Supplier Part Number 2: C5355129
footprint Cer Th Cap 7.5mm 4.7nF Y2
pins: 1, 2 B

## W5M33R0J
designator R?, comment 33
RES SMD 33 OHM 5% 5W AXIAL; ComponentLink1Description: DIGIKEY; ComponentLink1URL: https://www.digikey.com/en/products/detail/bourns-inc/W5M33R0J/7315047; ComponentLink2Description: LCSC; ComponentLink2URL: https://www.lcsc.com/product-detail/Through-Hole-Resistors_Vishay-Intertech-AC05000003309JAC00_C511506.html; Supplier 1: Digikey; Supplier Part Number 1: 118-W5M33R0JCT-ND; Supplier 2: LCSC; Supplier Part Number 2: C511506; Supplier 3: Digikey; Supplier Part Number 3: 749-AC05000003309JAC00CT-ND; Supplier 4: LCSC; Supplier Part Number 4: C511506
footprint Through Hole RES 5W
pins: 1 A, 2 B

## W5500
designator U?, comment IC CTLR 3-1 ETH TCP/IP 48LQFP
IC Ethernet Controller 10/100 Base-T/TX PHY SPI Interface 48-LQFP (7x7); Supplier 1: DigiKey; Supplier Part Number 1: 1278-W5500CT-ND; Supplier 2: LCSC; Supplier Part Number 2: C32843
footprint LQFP48
pins: 1 TXN, 2 TXP, 3 AGND, 4 AVDD, 5 RXN, 6 RXP, 7 DNC, 8 AVDD, 9 AGND, 10 EXRES1, 11 AVDD, 12 NC, 13 NC, 14 AGND, 15 AVDD, 16 AGND, 17 AVDD, 18 VBG, 19 AGND, 20 TOCAP, 21 AVDD, 22 1V2O, 23 RSVD, 24 SPDLED, 25 LINKLED, 26 DUPLED, 27 ACTLED, 28 VDD, 29 GND, 30 XI/CLCKIN, 31 XO, 32 SCSn, 33 SCLK, 34 MISO, 35 MOSI, 36 INTn, 37 RSTn, 38 RSVD, 39 RSVD, 40 RSVD, 41 RSVD, 42 RSVD, 43 PMODE2, 44 PMODE1, 45 PMODE0, 46 NC, 47 NC, 48 AGND
2 alternate drawings of the same symbol

## WCH LINKE Debugger connector
designator CN?, comment Conn 2x5
CONN For WCH LINKE Debugger; Supplier 1: LCSC; Supplier Part Number 1: C7501191; ComponentLink1Description: Datasheet; ComponentLink1URL: https://www.wch-ic.com/downloads/WCH-LinkUserManual_PDF.html; ComponentLink2Description: New link; ComponentLink2URL: https://www.ram-e-shop.com/shop/fc10-pcb-idc10-male-polarized-fc10-pcb-5991
footprint IDC 2X5 (10 pins, straight, gold plating)
pins: 1 5V, 2 RST, 3 3.3V, 4 TDI (PA15), 5 GND, 6 TDO (PB3), 7 SWDIO (PA13), 8 TX (MCU RX), 9 SWCLK (PA14), 10 RX (MCU TX)

## WH06-2C-223
designator R?, comment 2.2kΩ
RES POT TH 2.2k Trimpot 5mm 25% tol; ComponentLink1Description: Makers; ComponentLink1URL: https://makerselectronics.com/product/wh06-2c-223-trimpot-preset-2-2k-ohm/
footprint Potentiometer TrimPot 5mm TH
pins: 1, 2, 3

## WJ2EDGK-5.08-02P-14-00A
designator MCH?, comment PLUG 2POS  (value not drawn)  (mechanical)
MECH TERM BLOCK PLUG 2POS 5.08mm; Supplier 1: LCSC; Supplier Part Number 1: C71370
text: TERM BLOCK PLUG; 2POS 5.08mm

## WJ2EDGRC-5.08-02P-14-00A
designator CN?, comment TERM P5.08
CONN TERM PLUG HDR 2POS 5.08MM VERT; Supplier 2: LCSC; Supplier Part Number 2: C3697; ComponentLink1Description: New link; ComponentLink1URL: https://makerselectronics.com/product/pluggable-terminal-block-2-pin-5-08mm
footprint Terminal Block Pluggable P=5.08 2POS (5,08mm - PCB Headers - Horizontal - Closed ends - 02p)
pins: 1, 2

## WJ15EDGK-3.81-02P-14-00A
designator MCH?, comment PLUG 2POS  (value not drawn)  (mechanical)
MECH TERM BLOCK PLUG 2POS 3.81mm; Supplier 1: LCSC; Supplier Part Number 1: C8466
text: TERM BLOCK PLUG; 2POS 3.81mm

## WJ15EDGK-3.81-03P-14-00A
designator MCH?, comment PLUG 3POS  (value not drawn)  (mechanical)
MECH TERM BLOCK PLUG 3POS 3.81mm; Supplier 1: LCSC; Supplier Part Number 1: C8413
text: TERM BLOCK PLUG; 3POS 3.81mm

## WJ15EDGK-3.81-04P-14-00A
designator MCH?, comment PLUG 4POS  (value not drawn)  (mechanical)
MECH TERM BLOCK PLUG 4POS 3.81mm; Supplier 1: LCSC; Supplier Part Number 1: C7244
text: TERM BLOCK PLUG; 4POS 3.81mm

## WST4041
designator Q?, comment P-CH 40V 6A
MOSFET P-CH 40V 6A SOT-23-3L; Supplier 1: DigiKey; Supplier Part Number 1: 3141-5P40CT-ND; Supplier 2: LCSC; Supplier Part Number 2: C148357
footprint SOT23-3 (SOT23-3, BAT54, DIODES INC)
pins: 1 GATE, 2 SOURCE, 3 DRAIN
text: D; G; S

## X49SD25MSD2SC
designator Y?, comment 25MHz
Crystal Oscillator 25Mhz; Supplier 1: LCSC; Supplier Part Number 1: C14730
footprint XTAL_TH
pins: 1 OSC1, 2 OSC2

## XREE22-102
designator T?, comment Transformer 7 pin
TRANS 1mH Prim; Supplier 1: LCSC; Supplier Part Number 1: C45354993
footprint Transformer XREE22-102
pins: 1, 3, 4, 5, 6, 7 6
text: N1; N3; N2

## XRRH4D28-150M
designator L?, comment 15uH 0.76A
FIXED IND 15uH 0.76A 149mΩ SMD,4.7x4.7mm; Supplier 1: LCSC; Supplier Part Number 1: C5351438
footprint INDUCTOR 0.189" L x 0.189" W (4.80mm x 4.80mm)
pins: 1 B, 2 A

## XRRH4D28-470M
designator L?, comment 47uH 0.48A
FIXED IND 47uH 0.48A 587mΩ SMD,4.7x4.7mm; Supplier 1: DigiKey; Supplier Part Number 1: SRR4028-470YCT-ND; Supplier 2: LCSC; Supplier Part Number 2: C5351536
footprint INDUCTOR 0.189" L x 0.189" W (4.80mm x 4.80mm)
pins: 1 B, 2 A

## XSD 15.5*10.5*21
designator HS?, comment 15.5*10.5*21MM  (value not drawn)  (mechanical)
MECH 15.5*10.5*21MM 6063-T5 Heat Sinks ROHS; Supplier 1: LCSC; Supplier Part Number 1: C4649
text: HEATSINK

## YPRH4D28-101M
designator L?, comment 100uH 350mA
FIXED IND 100uH 290mA 1.02Ω SMD,4.7x4.7x3mm; Supplier 1: DigiKey; Supplier Part Number 1: 118-SRR4028-101YCT-ND; Supplier 2: LCSC; Supplier Part Number 2: C514846
footprint INDUCTOR 0.189" L x 0.189" W (4.80mm x 4.80mm)
pins: 1 B, 2 A

## ZEMS201612-1R0M
designator L?, comment 1uH 5.2A
FIXED IND 1uH 5.2A 36mΩ 0806; Supplier 1: LCSC; Supplier Part Number 1: C48945503
footprint IND 0805_2012
pins: 1 B, 2 A

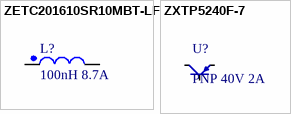
[diagram p27: symbols ZETC201610SR10MBT-LF to ZXTP5240F-7]

## ZETC201610SR10MBT-LF
designator L?, comment 100nH 8.7A
FIXED IND 100nH 8.7A 7mΩ 0806; Supplier 1: DigiKey; Supplier Part Number 1: 553-BDQQ00201212R11MPACT-ND; Supplier 2: LCSC; Supplier Part Number 2: C48945484
footprint IND 0805_2012
pins: 1 B, 2 A

## ZXTP5240F-7
designator U?, comment PNP 40V 2A
TRANS PNP 40V 2A SOT-23-3; Supplier 1: Digikey; Supplier Part Number 1: ZXTP5240F-7DICT-ND; Supplier 2: LCSC; Supplier Part Number 2: C3199979; Supplier 3: Digikey; Supplier Part Number 3: 1727-3908-1-ND; Supplier 4: LCSC; Supplier Part Number 4: C426843
footprint SOT23-3 (SOT23-3, BAT54, DIODES INC)
pins: 1 B, 2 E, 3 C